# Altium schematic symbol library Temperature_Digital.SchLib: 1 symbol
Pins are listed as number, name and electrical type; pins without a type are passive.

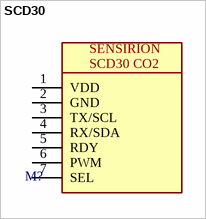
[diagram p0: symbol SCD30]

## SCD30
designator M?
CO₂ accuracy of ±(30 ppm + 3% MV) @400-10000 ppm; Manufacturer 1: *; Manufacturer Part Number 1: *; Supplier 1: *; Supplier Part Number 1: *; ERP: *; Package: SOT-353
footprint SCD30 (Footprint not found)
pins: 1 VDD, 2 GND, 3 TX/SCL, 4 RX/SDA, 5 RDY, 6 PWM, 7 SEL
text: SENSIRION; SCD30 CO2